# EAGLE library part WE-DSL_9PIN (library wurth_elektronik_passive_rev16d)
SMD-ADSL Transformer WE-DSL - IEC60950 compatible -- for ADSL applications -- Matched to various manufacturers ADSL ICs Updated on 2014-07-07 2014 (C) Wurth Elektronik
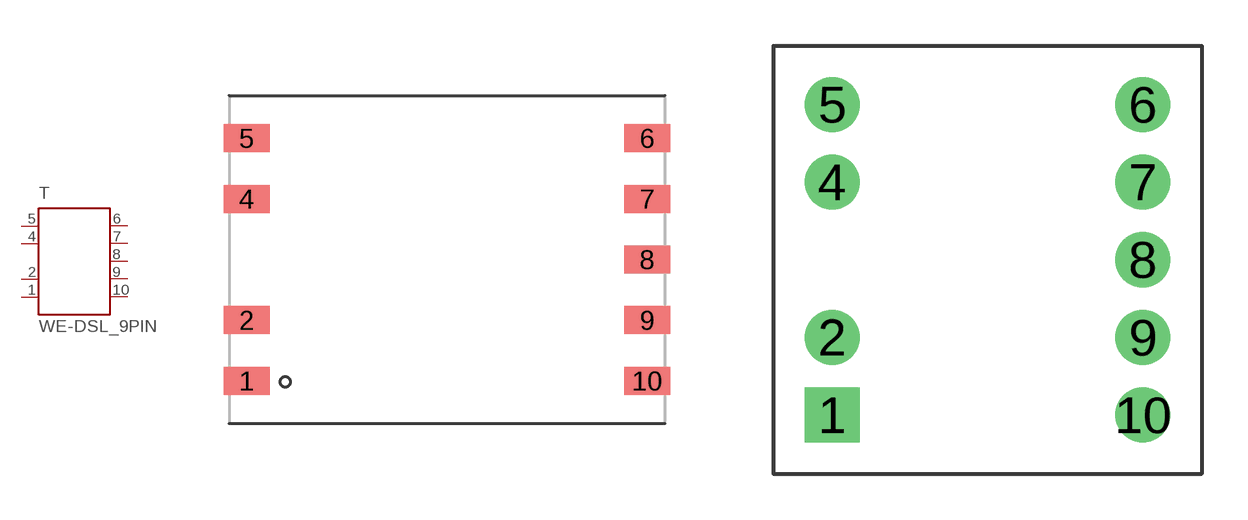
[diagram p5: symbol with the pads of WE_EP13_SMD_9PIN; footprints WE_EP13_SMD_9PIN, WE_EP13_THT_9PIN]

Designator prefix T

## WE-DSL_9PIN_750050702  [WE_EP13_SMD_9PIN]
1  1  pas
2  2  pas
4  4  pas
5  5  pas
6  6  pas
7  7  pas
8  8  pas
9  9  pas
10  10  pas

## WE-DSL_9PIN_750050772_750051256  [WE_EP13_THT_9PIN]
Pads as for WE_EP13_SMD_9PIN

## WE-DSL_9PIN_750051062_750051576  [WE_EP13_SMD_9PIN]
Pads as for WE_EP13_SMD_9PIN

## WE-DSL_9PIN_750051433  [WE_EP13_THT_9PIN]
Pads as for WE_EP13_SMD_9PIN

## Footprint WE_EP13_SMD_9PIN (pad centres in mm)
SMD-xDSL Transformer WE-DSL
smd 1.88 x 1.143: 1 -8.18,-4.96; 2 -8.18,-2.48; 4 -8.18,2.48; 5 -8.18,4.96; 6 8.18,4.96; 7 8.18,2.48; 8 8.18,0; 9 8.18,-2.48; 10 8.18,-4.96

## Footprint WE_EP13_THT_9PIN (pad centres in mm)
SMD-xDSL Transformer WE-DSL
drill 1.2 square: 1 -5.08,-5.08
drill 1.2: 2 -5.08,-2.54; 4 -5.08,2.54; 5 -5.08,5.08; 6 5.08,5.08; 7 5.08,2.54; 8 5.08,0; 9 5.08,-2.54; 10 5.08,-5.08